# EAGLE library part ELECTRODE_HOLDER (library electrode_holder)
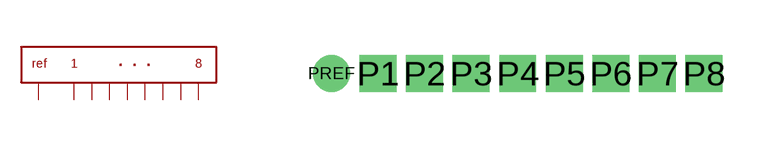
[diagram p0: symbol with the pads of ELECTRODE_HOLDER; footprint ELECTRODE_HOLDER]

Designator prefix -

## ELECTRODE_HOLDER  [ELECTRODE_HOLDER]
P1  P1
P2  P2
P3  P3
P4  P4
P5  P5
P6  P6
P7  P7
P8  P8
PREF  PREF

## Footprint ELECTRODE_HOLDER (pad centres in mm)
drill 0.5 square: P1 -3.81,0; P2 -2.54,0; P3 -1.27,0; P4 0,0; P5 1.27,0; P6 2.54,0; P7 3.81,0; P8 5.08,0
drill 0.5: PREF -5.08,0